# EAGLE library part MOLEX_20P_M (library ConV4)
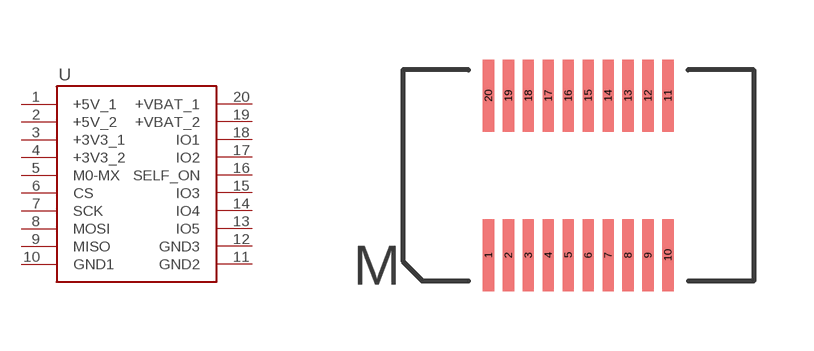
[diagram p7: symbol with the pads of MOLEX_20P_M; footprint MOLEX_20P_M]

Designator prefix -

## MOLEX_20P_M  [MOLEX_20P_M]
1  +5V_1
2  +5V_2
3  +3V3_1
4  +3V3_2
5  M0-MX
6  CS
7  SCK
8  MOSI
9  MISO
10  GND1
11  GND2
12  GND3
13  IO5
14  IO4
15  IO3
16  SELF_ON
17  IO2
18  IO1
19  +VBAT_2
20  +VBAT_1

## Footprint MOLEX_20P_M (pad centres in mm)
smd 0.28 x 1.8: 1 0,-2; 2 0.5,-2; 3 1,-2; 4 1.5,-2; 5 2,-2; 6 2.5,-2; 7 3,-2; 8 3.5,-2; 9 4,-2; 10 4.5,-2; 11 4.5,2; 12 4,2; 13 3.5,2; 14 3,2; 15 2.5,2; 16 2,2; 17 1.5,2; 18 1,2; 19 0.5,2; 20 0,2